# Altium footprint library Modules.PcbLib: 1 footprints
Each footprint in its own frame and in the unit in brackets; x right, y up, seen from the top. Pads: shape width x height; smd on the part's side, far side on the other; paste and mask are expansions set on the pad; w line width, h text height; cw(c..) or ccw(c..) is an arc to the next point about the centre after c.
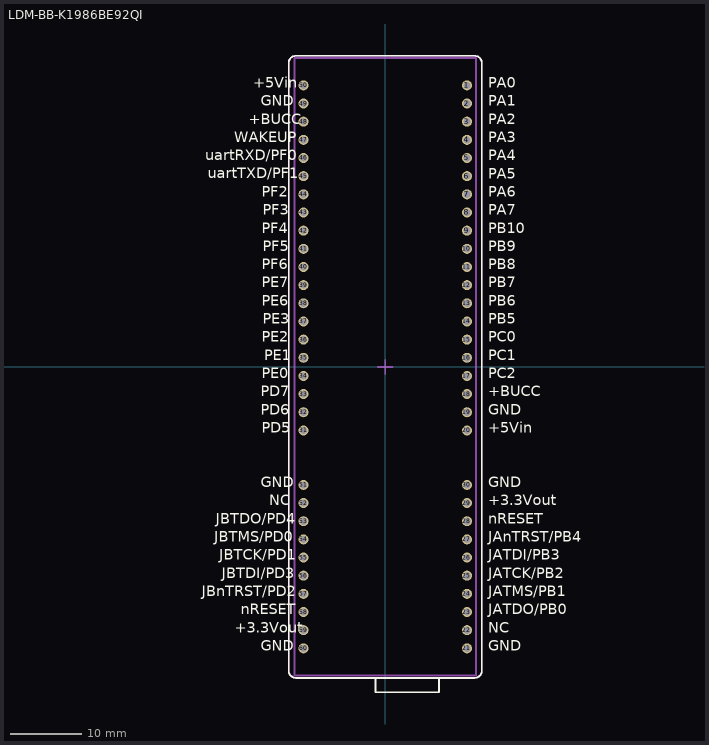
[diagram p0: the footprint, top view; thin cyan lines are the x and y axes]

## LDM-BB-K1986BE92QI [mm]
pads (60):
  round 1.4 hole 1: 1(11.43,39.37) 2(11.43,36.83) 3(11.43,34.29) 4(11.43,31.75) 5(11.43,29.21) 6(11.43,26.67) 7(11.43,24.13) 8(11.43,21.59) 9(11.43,19.05) 10(11.43,16.51) 11(11.43,13.97) 12(11.43,11.43) 13(11.43,8.89) 14(11.43,6.35) 15(11.43,3.81) 16(11.43,1.27) 17(11.43,-1.27) 18(11.43,-3.81) 19(11.43,-6.35) 20(11.43,-8.89) 21(11.43,-39.37) 22(11.43,-36.83) 23(11.43,-34.29) 24(11.43,-31.75) 25(11.43,-29.21) 26(11.43,-26.67) 27(11.43,-24.13) 28(11.43,-21.59) 29(11.43,-19.05) 30(11.43,-16.51) 31(-11.43,-8.89) 32(-11.43,-6.35) 33(-11.43,-3.81) 34(-11.43,-1.27) 35(-11.43,1.27) 36(-11.43,3.81) 37(-11.43,6.35) 38(-11.43,8.89) 39(-11.43,11.43) 40(-11.43,13.97) 41(-11.43,16.51) 42(-11.43,19.05) 43(-11.43,21.59) 44(-11.43,24.13) 45(-11.43,26.67) 46(-11.43,29.21) 47(-11.43,31.75) 48(-11.43,34.29) 49(-11.43,36.83) 50(-11.43,39.37) 51(-11.43,-16.51) 52(-11.43,-19.05) 53(-11.43,-21.59) 54(-11.43,-24.13) 55(-11.43,-26.67) 56(-11.43,-29.21) 57(-11.43,-31.75) 58(-11.43,-34.29) 59(-11.43,-36.83) 60(-11.43,-39.37)
Top Overlay:
  lines w0.254: -1.38,-43.5 -1.38,-45.5 7.52,-45.5 7.52,-43.5 ; -13.5,-42.5 ccw(c-12.5,-42.5) -12.5,-43.5 12.5,-43.5 ccw(c12.5,-42.5) 13.5,-42.5 13.5,42.5 ccw(c12.5,42.5) 12.5,43.5 -12,43.5 -12.5,43.5 ccw(c-12.5,42.5) -13.5,42.5 -13.5,-42.5
  text "GND" at 14.43,-40.191 h2.5
  text "NC" at 14.43,-37.651 h2.5
  text "JATDO/PB0" at 14.43,-35.102 h2.5
  text "JATMS/PB1" at 14.43,-32.562 h2.5
  text "JATCK/PB2" at 14.43,-30.022 h2.5
  text "JATDI/PB3" at 14.43,-27.482 h2.5
  text "JAnTRST/PB4" at 14.43,-24.942 h2.5
  text "nRESET" at 14.43,-22.411 h2.5
  text "+3.3Vout" at 14.43,-19.871 h2.5
  text "GND" at 14.43,-17.331 h2.5
  text "PD5" at -17.265,-9.711 h2.5
  text "PD6" at -17.378,-7.171 h2.5
  text "PD7" at -17.38,-4.631 h2.5
  text "PE0" at -17.262,-2.091 h2.5
  text "PE1" at -16.92,0.449 h2.5
  text "PE2" at -17.269,2.989 h2.5
  text "PE3" at -17.147,5.529 h2.5
  text "PE6" at -17.26,8.069 h2.5
  text "PE7" at -17.262,10.609 h2.5
  text "PF6" at -17.26,13.149 h2.5
  text "PF5" at -17.147,15.689 h2.5
  text "PF4" at -17.262,18.229 h2.5
  text "PF3" at -17.147,20.769 h2.5
  text "PF2" at -17.269,23.309 h2.5
  text "uartTXD/PF1" at -24.852,25.858 h2.5
  text "uartRXD/PF0" at -25.194,28.398 h2.5
  text "WAKEUP" at -21.11,30.929 h2.5
  text "+BUCC" at -19.065,33.469 h2.5
  text "GND" at -17.38,36.009 h2.5
  text "+5Vin" at -18.482,38.549 h2.5
  text "GND" at -17.38,-17.331 h2.5
  text "JBTDO/PD4" at -23.681,-22.402 h2.5
  text "JBTMS/PD0" at -23.913,-24.942 h2.5
  text "JBTCK/PD1" at -23.221,-27.482 h2.5
  text "JBTDI/PD3" at -22.867,-30.022 h2.5
  text "JBnTRST/PD2" at -25.671,-32.562 h2.5
  text "nRESET" at -20.176,-35.111 h2.5
  text "+3.3Vout" at -21.052,-37.651 h2.5
  text "GND" at -17.38,-40.191 h2.5
  text "NC" at -16.214,-19.871 h2.5
  text "PA3" at 14.43,30.929 h2.5
  text "PA0" at 14.43,38.549 h2.5
  text "PA1" at 14.43,36.009 h2.5
  text "PA2" at 14.43,33.469 h2.5
  text "PA4" at 14.43,28.389 h2.5
  text "PB5" at 14.43,5.529 h2.5
  text "PA7" at 14.43,20.769 h2.5
  text "PA6" at 14.43,23.309 h2.5
  text "PA5" at 14.43,25.849 h2.5
  text "GND" at 14.43,-7.171 h2.5
  text "PB10" at 14.43,18.229 h2.5
  text "PB9" at 14.43,15.689 h2.5
  text "PB8" at 14.43,13.149 h2.5
  text "PB7" at 14.43,10.609 h2.5
  text "PB6" at 14.43,8.069 h2.5
  text "PC0" at 14.43,2.989 h2.5
  text "PC1" at 14.43,0.449 h2.5
  text "PC2" at 14.43,-2.091 h2.5
  text "+BUCC" at 14.43,-4.631 h2.5
  text "+5Vin" at 14.43,-9.711 h2.5
Assembly:
  lines w0.254: -13.5,-42.5 ccw(c-12.5,-42.5) -12.5,-43.5 12.5,-43.5 ccw(c12.5,-42.5) 13.5,-42.5 13.5,42.5 ccw(c12.5,42.5) 12.5,43.5 -12.5,43.5 ccw(c-12.5,42.5) -13.5,42.5 -13.5,-42.5
Mechanical 15:
  lines w0.254: -1,0 1,0 ; 0,-1 0,1 ; -12.7,-43.18 -12.7,43.18 12.7,43.18 12.7,-43.18 -12.7,-43.18